# Altium footprint library connector.PcbLib: 180 footprints (part 5 of 12)
Each footprint in its own frame and in the unit in brackets; x right, y up, seen from the top. Pads: shape width x height; smd on the part's side, far side on the other; paste and mask are expansions set on the pad; w line width, h text height; cw(c..) or ccw(c..) is an arc to the next point about the centre after c.
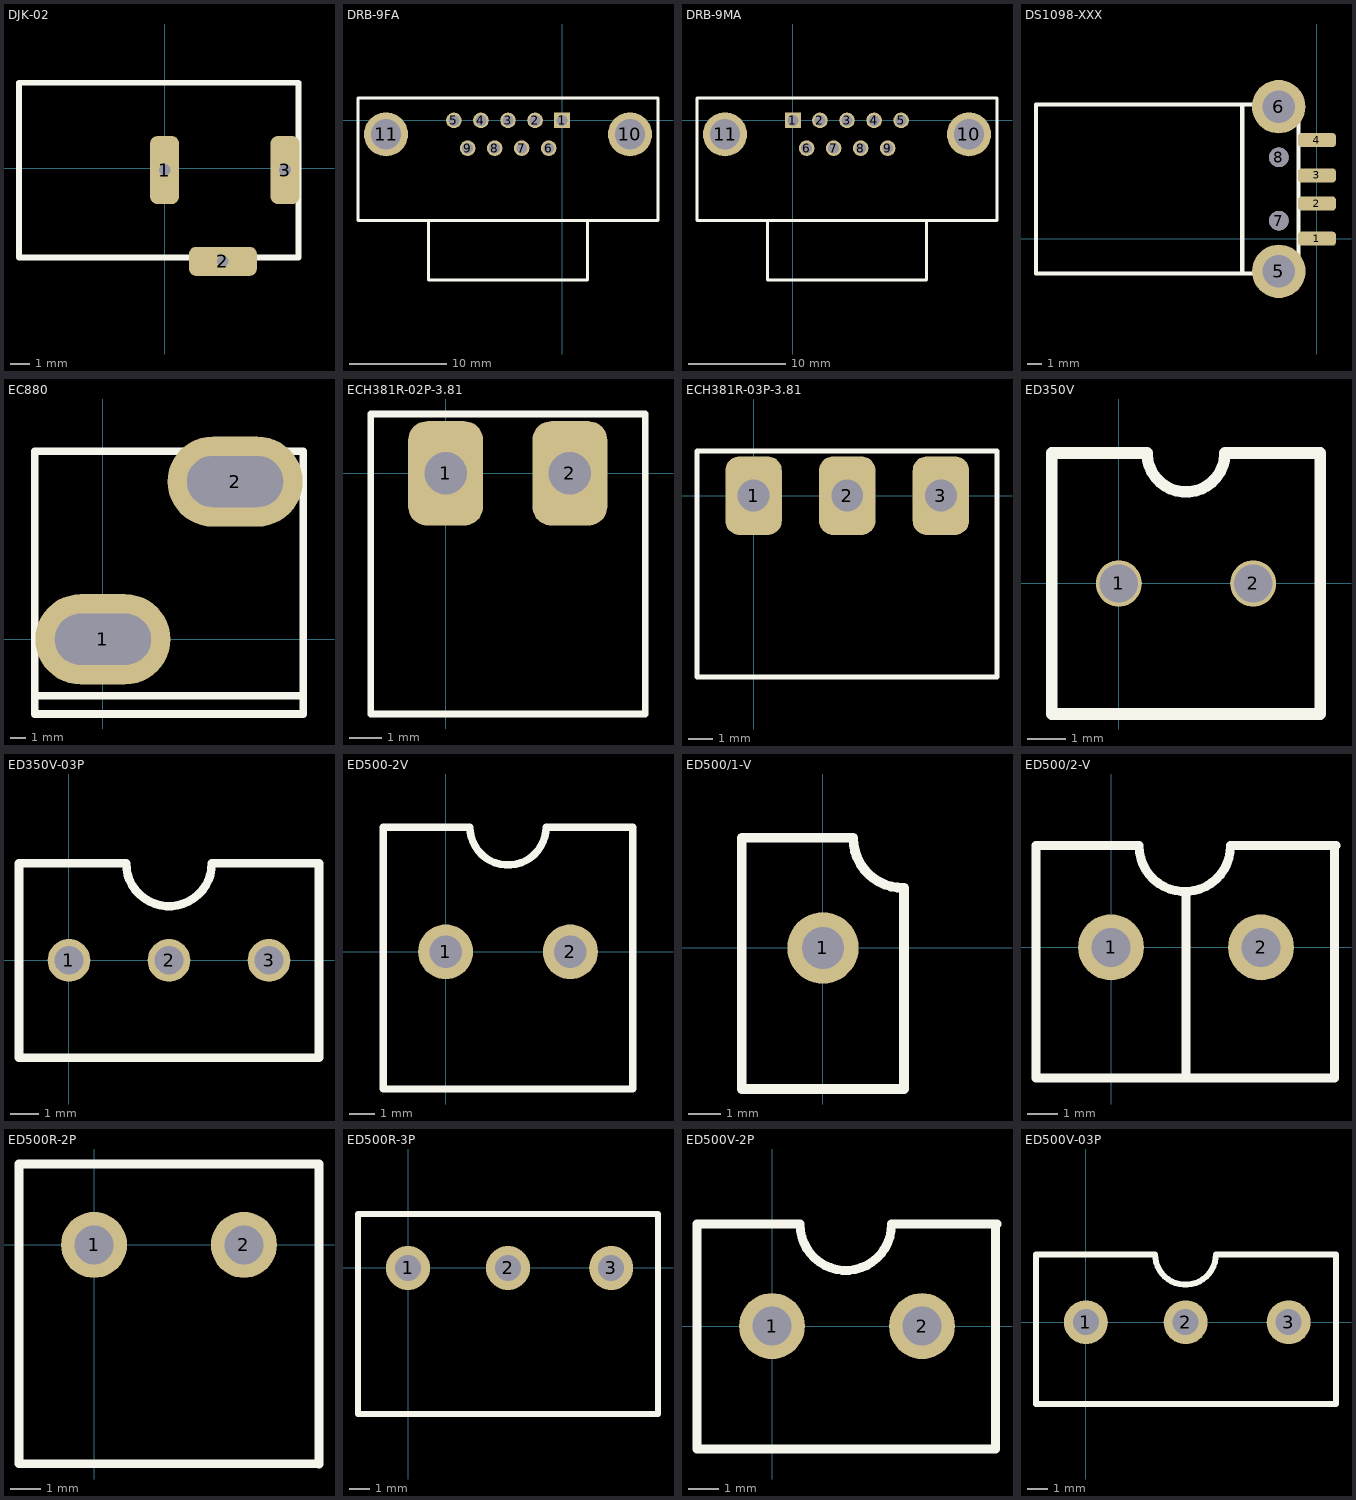
[diagram p4: the footprints below, top view; thin cyan lines are the x and y axes]

## DJK-02 [mm]
pads (3):
  rrect50% 1.5x3.5 hole 0.6: 1(0,-0.1) 3(6.2,-0.1)
  rrect50% 3.5x1.5 hole 0.6: 2(3,-4.8)
Top Overlay:
  lines w0.3: 0,-4.6 6.9,-4.6 ; 0,4.4 -7.5,4.4 ; -7.5,4.4 6.9,4.4 6.9,-0.1 6.9,-4.6 ; -7.5,4.4 -7.5,-4.6 6.9,-4.6

## DRB-9FA [mm]
pads (11):
  rect 1.6x1.6 hole 1.1: 1(0,0)
  round 1.6 hole 1.1: 2(-2.769,0) 3(-5.537,0) 4(-8.306,0) 5(-11.074,0) 6(-1.372,-2.845) 7(-4.14,-2.845) 8(-6.909,-2.845) 9(-9.677,-2.845)
  round 4.5 hole 3.1: 10(6.96,-1.422) 11(-18.034,-1.422)
Top Overlay:
  lines w0.3: -13.68,-10.24 -13.68,-16.34 -5.53,-16.34 2.62,-16.34 2.62,-10.24 ; -20.904,-10.236 -20.904,2.286 9.83,2.286 9.83,-10.236 -20.904,-10.236

## DRB-9MA [mm]
pads (11):
  rect 1.6x1.6 hole 1.1: 1(0,-0.001)
  round 1.6 hole 1.1: 2(2.768,-0.001) 3(5.537,-0.001) 4(8.305,-0.001) 5(11.074,-0.001) 6(1.397,-2.846) 7(4.165,-2.846) 8(6.934,-2.846) 9(9.702,-2.846)
  round 4.5 hole 3.1: 10(18.034,-1.423) 11(-6.96,-1.423)
Top Overlay:
  lines w0.3: -2.606,-10.241 -2.606,-16.341 5.544,-16.341 13.694,-16.341 13.694,-10.241 ; -9.83,-10.237 -9.83,2.285 20.904,2.285 20.904,-10.237 -9.83,-10.237

## DS1098-XXX [mm]
pads (8):
  rrect50% 2.7x1 all layers, no hole: 1(0,-0.01) 2(0,2.49) 3(0,4.49) 4(0,6.99)
  round 3.8 hole 2.3: 5(-2.71,-2.33) 6(-2.72,9.37)
  round 1.4 hole 1.4 unplated: 7(-2.71,1.27) 8(-2.71,5.77)
Top Overlay:
  lines w0.3: -5.31,-2.48 -5.31,9.52 ; -19.96,-2.48 -1.31,-2.48 -1.31,9.52 -19.96,9.52 -19.96,-2.48

## EC880 [mm]
height 17
pads (2):
  oval 9x6 hole 3.4 slot 6.4 at 0 deg unplated: 1(0,0) 2(8.8,10.5)
Top Overlay:
  lines w0.5: -4.5,-3.75 13.325,-3.75 ; -4.525,-4.975 -4.525,12.525 13.325,12.525 13.325,-4.975 -4.525,-4.975

## ECH381R-02P-3.81 [mm]
pads (2):
  rrect50% 2.3x3.2 hole 1.3: 1(0,0) 2(3.81,0)
Top Overlay:
  lines w0.2: -2.3,-7.379 -2.3,1.821 6.125,1.821 6.125,-7.379 -2.3,-7.379
3D body "User Library-1803277.step": height 7.25, standoff -3.4, extent -2.605,-8 6.405,1.3

## ECH381R-03P-3.81 [mm]
pads (3):
  rrect50% 2.3x3.2 hole 1.3: 1(0,0) 2(3.81,0) 3(7.62,0)
Top Overlay:
  lines w0.2: -2.3,-7.379 9.9,-7.379 9.9,1.821 -2.3,1.821 -2.3,-7.379
3D body "User Library-1803280.step": height 7.25, standoff -3.4, extent -2.6,-8 10.22,1.3

## ED350V [mm]
pads (2):
  round 1.2 hole 1: 1(0,0) 2(3.5,0)
Top Overlay:
  lines w0.3: -1.75,-3.4 -1.75,3.4 0.734,3.4 ccw(c1.75,3.4) 2.766,3.4 5.25,3.4 5.25,-3.4 -1.75,-3.4

## ED350V-03P [mm]
pads (3):
  round 1.5 hole 1: 1(0,0) 2(3.5,0) 3(7,0)
Top Overlay:
  lines w0.3: -1.75,-3.4 -1.75,3.4 2,3.4 ccw(c3.5,3.4) 5,3.4 8.75,3.4 8.75,-3.4 -1.75,-3.4

## ED500-2V [mm]
pads (2):
  round 2.2 hole 1.3: 1(0,0) 2(5,0)
Top Overlay:
  lines w0.3: -2.5,-5.5 7.5,-5.5 7.5,5 4.024,5 cw(c2.5,5) 0.976,5 -2.5,5 -2.5,-5.5

## ED500/1-V [mm]
pads (1):
  round 2.2 hole 1.3: 1(0,0)
Top Overlay:
  lines w0.3: -2.5,3.395 -2.5,-4.35 2.495,-4.35 ; -2.5,3.4 0.935,3.4 ; 0.936,3.375 ccw(c2.46,3.375) 2.5,1.852 ; 2.5,-4.35 2.5,1.845

## ED500/2-V [mm]
pads (2):
  round 2.2 hole 1.3: 1(0,0) 2(5,0)
Top Overlay:
  lines w0.3: 0.936,3.38 ccw(c2.46,3.38) 3.984,3.38 ; 0.94,3.4 -2.5,3.4 -2.5,-4.35 7.45,-4.35 7.45,3.4 ; 2.5,-4.35 2.5,1.85 ; 3.984,3.4 7.5,3.4

## ED500R-2P [mm]
pads (2):
  round 2.2 hole 1.3: 1(0,0) 2(5,0)
Top Overlay:
  lines w0.3: -2.5,-7.3 7.5,-7.31 7.5,2.7 -2.5,2.7 -2.5,-7.3

## ED500R-3P [mm]
pads (3):
  round 2.2 hole 1.3: 1(0,0) 2(5,0) 3(10.16,0)
Top Overlay:
  lines w0.3: -2.5,-7.3 -2.5,2.7 12.5,2.7 12.5,-7.3 -2.5,-7.3

## ED500V-2P [mm]
pads (2):
  round 2.2 hole 1.3: 1(0,0) 2(5,0)
Top Overlay:
  lines w0.3: 0.936,3.38 ccw(c2.46,3.38) 3.984,3.38 ; 0.94,3.4 -2.5,3.4 -2.5,-4.1 7.45,-4.1 7.45,3.4 ; 3.984,3.4 7.5,3.4

## ED500V-03P [mm]
pads (3):
  round 2.2 hole 1.3: 1(0,0) 2(5,0) 3(10.16,0)
Top Overlay:
  lines w0.3: 3.46,3.4 -2.5,3.4 -2.5,-4.1 12.53,-4.1 12.53,3.4 6.52,3.4 ; 3.466,3.4 ccw(c4.99,3.4) 6.514,3.4